# Altium schematic symbol library kmilo17pet-NSC_Switcher.SchLib: 2226 symbols (part 45 of 59)
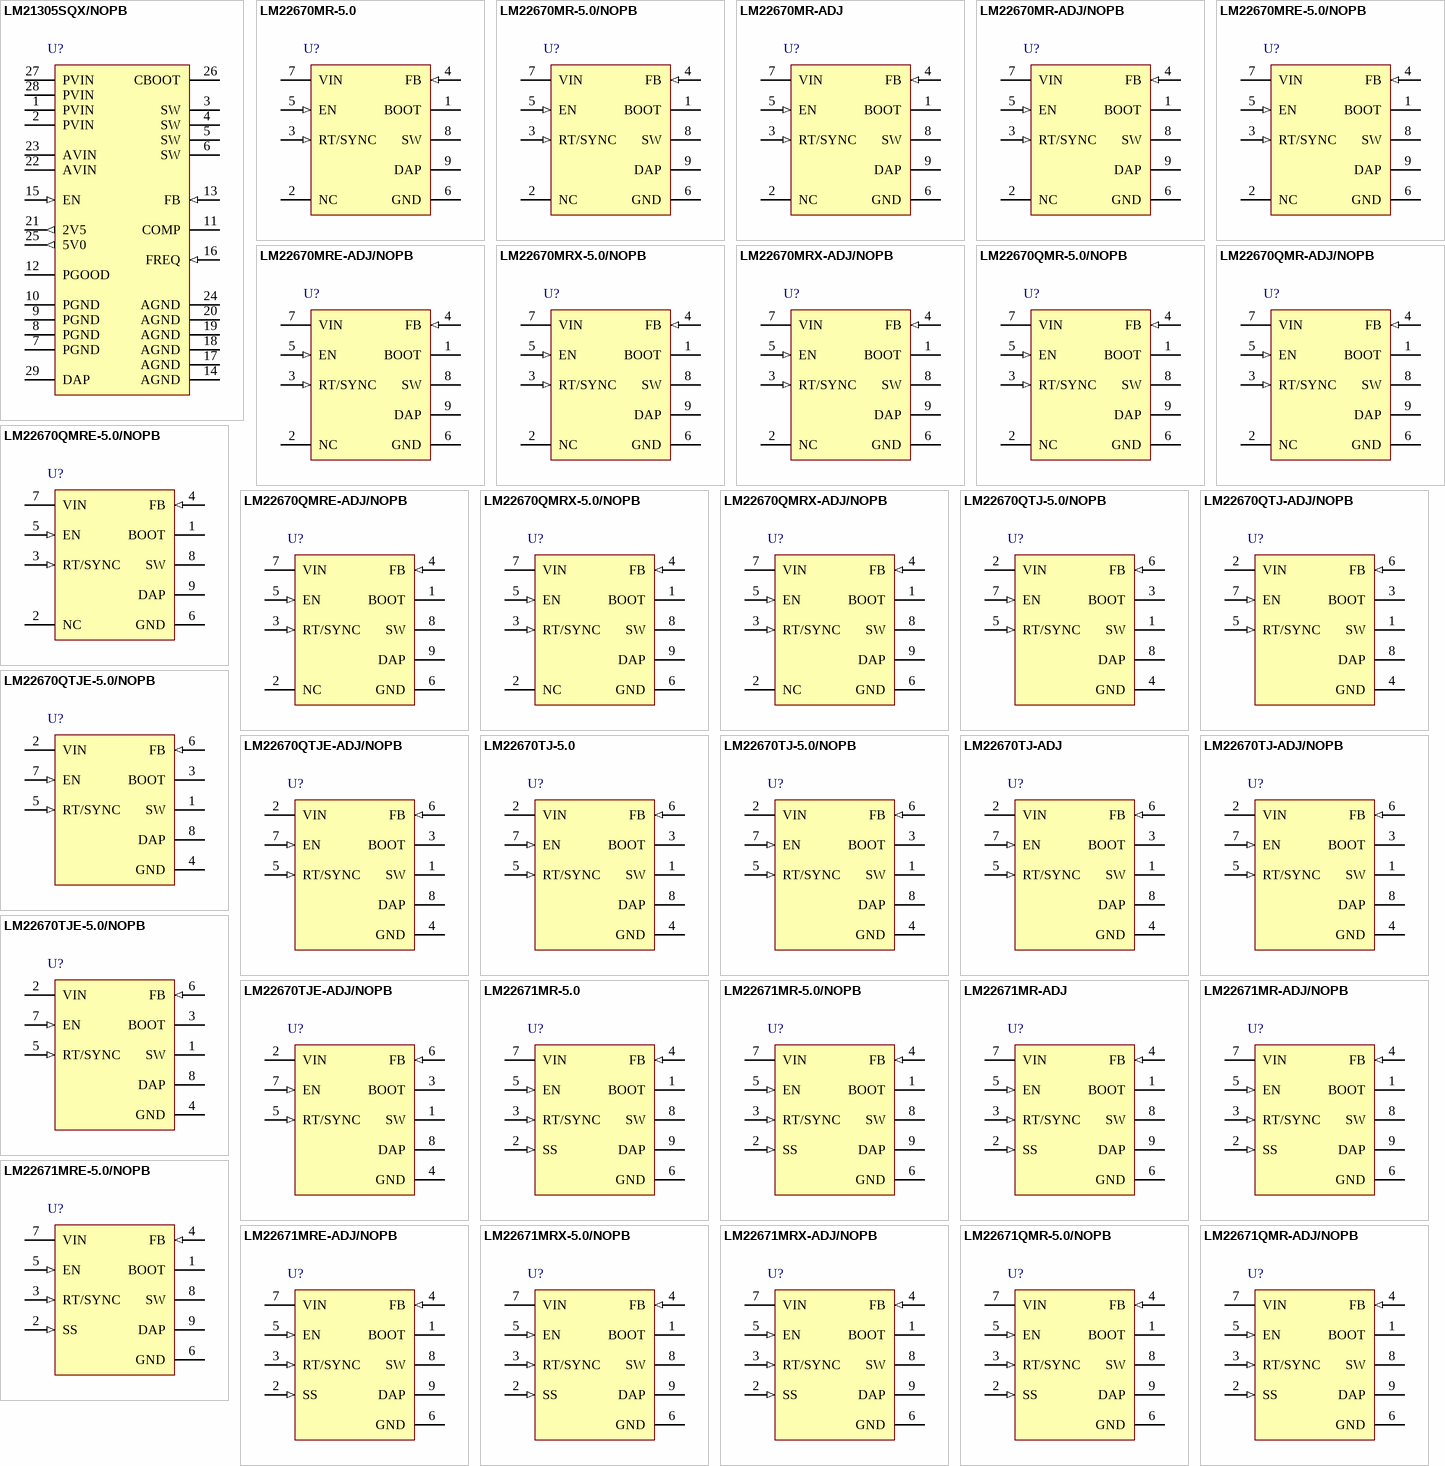
[diagram p113: symbols LM21305SQX/NOPB to LM22671QMR-ADJ/NOPB]

## LM21305SQX/NOPB
designator U?
5A Adjustable Frequency Synchronous Buck Regulator, 28-pin LLP, 4500 Reel; PartNumber: LM21305SQX/NOPB; Manufacturer: National Semiconductor; PackageTopMarking: NS*UZXYTT*21305SQ; PowerWise: Y; CompType: Switcher; DatasheetVersion: Sep-2011; PackageVersion: revB, Sep-2008; PackageReference: SQA28B; PackageDescription: LLP, Quad, 5 x 5 x 0.8mm Body, 28 Lead, 0.5mm Pitch, No Pullback, 2.8 x 2.8 mm Exposed Pad; RoHS: Y; PinCount: 28; High-Reliability: Y; Code_JEDEC: MO-220-WHHD-1; ComponentLink1Description: Manufacturer URL; ComponentLink1URL: http://www.national.com/; ComponentLink2Description: LM21305 Datasheet; ComponentLink2URL: http://www.national.com/ds/LM/LM21305.pdf; ComponentLink3Description: LM21305 Web Page; ComponentLink3URL: http://www.national.com/pf/LM/LM21305.html; ComponentLink4Description: SQA28B Package Page; ComponentLink4URL: http://www.national.com/packaging/folders/sqa28b.html
footprint SQA28B (QFN, 29-Leads, Body 5x5mm, Pitch 0.5mm, Thermal Pad 2.8x2.8mm, NSC Recommended)
pins: 1 PVIN (power), 2 PVIN (power), 3 SW (power), 4 SW (power), 5 SW (power), 6 SW (power), 7 PGND (power), 8 PGND (power), 9 PGND (power), 10 PGND (power), 11 COMP, 12 PGOOD (oc), 13 FB (in), 14 AGND (power), 15 EN (in), 16 FREQ (in), 17 AGND (power), 18 AGND (power), 19 AGND (power), 20 AGND (power), 21 2V5 (out), 22 AVIN (power), 23 AVIN (power), 24 AGND (power), 25 5V0 (out), 26 CBOOT, 27 PVIN (power), 28 PVIN (power), 29 DAP (power)

## LM22670MR-5.0
designator U?
3A SIMPLE SWITCHER® Step-Down Voltage Regulator with Synchronization or Adjustable Switching Frequency, 8-pin PSOP; PartNumber: LM22670MR-5.0; Manufacturer: National Semiconductor; PackageTopMarking: NSXYTT*L22670*5.0; PowerWise: N; High-Reliability: Y; DatasheetVersion: Jan-2011; PackageVersion: revB, Dec-2007; PackageReference: MRA08B; PackageDescription: Molded, PSOP .193 x .154 x .058in, 8 Lead, .050in Pitch, Large DAP; RoHS: Y; PinCount: 8; CompType: Switcher; Code_JEDEC: MS-012-AA; ComponentLink1Description: Manufacturer URL; ComponentLink1URL: http://www.national.com/; ComponentLink2Description: LM22670 Datasheet; ComponentLink2URL: http://www.national.com/ds/LM/LM22670.pdf; ComponentLink3Description: LM22670 Web Page; ComponentLink3URL: http://www.national.com/pf/LM/LM22670.html; ComponentLink4Description: MRA08B Package Page; ComponentLink4URL: http://www.national.com/packaging/folders/mra08b.html
footprint MRA08B_N (SOIC, 8-Leads, Body 4.9x3.9mm, Pitch 1.27mm, Thermal Pad, IPC Medium Density)
footprint MRA08B_L (SOIC, 8-Leads, Body 4.9x3.9mm, Pitch 1.27mm, Thermal Pad, IPC High Density)
footprint MRA08B_M (SOIC, 8-Leads, Body 4.9x3.9mm, Pitch 1.27mm, Thermal Pad, IPC Low Density)
pins: 1 BOOT, 2 NC, 3 RT/SYNC (in), 4 FB (in), 5 EN (in), 6 GND (power), 7 VIN (power), 8 SW (power), 9 DAP (power)

## LM22670MR-5.0/NOPB
designator U?
3A SIMPLE SWITCHER®, Step-Down Voltage Regulator with Synchronization or Adjustable Switching Frequency, 8-pin PSOP, Pb-Free; PartNumber: LM22670MR-5.0/NOPB; Manufacturer: National Semiconductor; PackageTopMarking: NSXYTT*L22670*5.0; PowerWise: N; High-Reliability: Y; DatasheetVersion: Jan-2011; PackageVersion: revB, Dec-2007; PackageReference: MRA08B; PackageDescription: Molded, PSOP .193 x .154 x .058in, 8 Lead, .050in Pitch, Large DAP; RoHS: Y; PinCount: 8; CompType: Switcher; Code_JEDEC: MS-012-AA; ComponentLink1Description: Manufacturer URL; ComponentLink1URL: http://www.national.com/; ComponentLink2Description: LM22670 Datasheet; ComponentLink2URL: http://www.national.com/ds/LM/LM22670.pdf; ComponentLink3Description: LM22670 Web Page; ComponentLink3URL: http://www.national.com/pf/LM/LM22670.html; ComponentLink4Description: MRA08B Package Page; ComponentLink4URL: http://www.national.com/packaging/folders/mra08b.html
footprint MRA08B_N (SOIC, 8-Leads, Body 4.9x3.9mm, Pitch 1.27mm, Thermal Pad, IPC Medium Density)
footprint MRA08B_L (SOIC, 8-Leads, Body 4.9x3.9mm, Pitch 1.27mm, Thermal Pad, IPC High Density)
footprint MRA08B_M (SOIC, 8-Leads, Body 4.9x3.9mm, Pitch 1.27mm, Thermal Pad, IPC Low Density)
pins: 1 BOOT, 2 NC, 3 RT/SYNC (in), 4 FB (in), 5 EN (in), 6 GND (power), 7 VIN (power), 8 SW (power), 9 DAP (power)

## LM22670MR-ADJ
designator U?
3A SIMPLE SWITCHER® Step-Down Voltage Regulator with Synchronization or Adjustable Switching Frequency, 8-pin PSOP; PartNumber: LM22670MR-ADJ; Manufacturer: National Semiconductor; PackageTopMarking: NSXYTT*L22670*ADJ; PowerWise: N; High-Reliability: Y; DatasheetVersion: Jan-2011; PackageVersion: revB, Dec-2007; PackageReference: MRA08B; PackageDescription: Molded, PSOP .193 x .154 x .058in, 8 Lead, .050in Pitch, Large DAP; RoHS: Y; PinCount: 8; CompType: Switcher; Code_JEDEC: MS-012-AA; ComponentLink1Description: Manufacturer URL; ComponentLink1URL: http://www.national.com/; ComponentLink2Description: LM22670 Datasheet; ComponentLink2URL: http://www.national.com/ds/LM/LM22670.pdf; ComponentLink3Description: LM22670 Web Page; ComponentLink3URL: http://www.national.com/pf/LM/LM22670.html; ComponentLink4Description: MRA08B Package Page; ComponentLink4URL: http://www.national.com/packaging/folders/mra08b.html
footprint MRA08B_N (SOIC, 8-Leads, Body 4.9x3.9mm, Pitch 1.27mm, Thermal Pad, IPC Medium Density)
footprint MRA08B_L (SOIC, 8-Leads, Body 4.9x3.9mm, Pitch 1.27mm, Thermal Pad, IPC High Density)
footprint MRA08B_M (SOIC, 8-Leads, Body 4.9x3.9mm, Pitch 1.27mm, Thermal Pad, IPC Low Density)
pins: 1 BOOT, 2 NC, 3 RT/SYNC (in), 4 FB (in), 5 EN (in), 6 GND (power), 7 VIN (power), 8 SW (power), 9 DAP (power)

## LM22670MR-ADJ/NOPB
designator U?
3A SIMPLE SWITCHER®, Step-Down Voltage Regulator with Synchronization or Adjustable Switching Frequency, 8-pin PSOP, Pb-Free; PartNumber: LM22670MR-ADJ/NOPB; Manufacturer: National Semiconductor; PackageTopMarking: NSXYTT*L22670*ADJ; PowerWise: N; High-Reliability: Y; DatasheetVersion: Jan-2011; PackageVersion: revB, Dec-2007; PackageReference: MRA08B; PackageDescription: Molded, PSOP .193 x .154 x .058in, 8 Lead, .050in Pitch, Large DAP; RoHS: Y; PinCount: 8; CompType: Switcher; Code_JEDEC: MS-012-AA; ComponentLink1Description: Manufacturer URL; ComponentLink1URL: http://www.national.com/; ComponentLink2Description: LM22670 Datasheet; ComponentLink2URL: http://www.national.com/ds/LM/LM22670.pdf; ComponentLink3Description: LM22670 Web Page; ComponentLink3URL: http://www.national.com/pf/LM/LM22670.html; ComponentLink4Description: MRA08B Package Page; ComponentLink4URL: http://www.national.com/packaging/folders/mra08b.html
footprint MRA08B_N (SOIC, 8-Leads, Body 4.9x3.9mm, Pitch 1.27mm, Thermal Pad, IPC Medium Density)
footprint MRA08B_L (SOIC, 8-Leads, Body 4.9x3.9mm, Pitch 1.27mm, Thermal Pad, IPC High Density)
footprint MRA08B_M (SOIC, 8-Leads, Body 4.9x3.9mm, Pitch 1.27mm, Thermal Pad, IPC Low Density)
pins: 1 BOOT, 2 NC, 3 RT/SYNC (in), 4 FB (in), 5 EN (in), 6 GND (power), 7 VIN (power), 8 SW (power), 9 DAP (power)

## LM22670MRE-5.0/NOPB
designator U?
3A SIMPLE SWITCHER®, Step-Down Voltage Regulator with Synchronization or Adjustable Switching Frequency, 8-pin PSOP, Pb-Free; PartNumber: LM22670MRE-5.0/NOPB; Manufacturer: National Semiconductor; PackageTopMarking: NSXYTT*L22670*5.0; PowerWise: N; High-Reliability: Y; DatasheetVersion: Jan-2011; PackageVersion: revB, Dec-2007; PackageReference: MRA08B; PackageDescription: Molded, PSOP .193 x .154 x .058in, 8 Lead, .050in Pitch, Large DAP; RoHS: Y; PinCount: 8; CompType: Switcher; Code_JEDEC: MS-012-AA; ComponentLink1Description: Manufacturer URL; ComponentLink1URL: http://www.national.com/; ComponentLink2Description: LM22670 Datasheet; ComponentLink2URL: http://www.national.com/ds/LM/LM22670.pdf; ComponentLink3Description: LM22670 Web Page; ComponentLink3URL: http://www.national.com/pf/LM/LM22670.html; ComponentLink4Description: MRA08B Package Page; ComponentLink4URL: http://www.national.com/packaging/folders/mra08b.html
footprint MRA08B_N (SOIC, 8-Leads, Body 4.9x3.9mm, Pitch 1.27mm, Thermal Pad, IPC Medium Density)
footprint MRA08B_L (SOIC, 8-Leads, Body 4.9x3.9mm, Pitch 1.27mm, Thermal Pad, IPC High Density)
footprint MRA08B_M (SOIC, 8-Leads, Body 4.9x3.9mm, Pitch 1.27mm, Thermal Pad, IPC Low Density)
pins: 1 BOOT, 2 NC, 3 RT/SYNC (in), 4 FB (in), 5 EN (in), 6 GND (power), 7 VIN (power), 8 SW (power), 9 DAP (power)

## LM22670MRE-ADJ/NOPB
designator U?
3A SIMPLE SWITCHER®, Step-Down Voltage Regulator with Synchronization or Adjustable Switching Frequency, 8-pin PSOP, Pb-Free; PartNumber: LM22670MRE-ADJ/NOPB; Manufacturer: National Semiconductor; PackageTopMarking: NSXYTT*L22670*ADJ; PowerWise: N; High-Reliability: Y; DatasheetVersion: Jan-2011; PackageVersion: revB, Dec-2007; PackageReference: MRA08B; PackageDescription: Molded, PSOP .193 x .154 x .058in, 8 Lead, .050in Pitch, Large DAP; RoHS: Y; PinCount: 8; CompType: Switcher; Code_JEDEC: MS-012-AA; ComponentLink1Description: Manufacturer URL; ComponentLink1URL: http://www.national.com/; ComponentLink2Description: LM22670 Datasheet; ComponentLink2URL: http://www.national.com/ds/LM/LM22670.pdf; ComponentLink3Description: LM22670 Web Page; ComponentLink3URL: http://www.national.com/pf/LM/LM22670.html; ComponentLink4Description: MRA08B Package Page; ComponentLink4URL: http://www.national.com/packaging/folders/mra08b.html
footprint MRA08B_N (SOIC, 8-Leads, Body 4.9x3.9mm, Pitch 1.27mm, Thermal Pad, IPC Medium Density)
footprint MRA08B_L (SOIC, 8-Leads, Body 4.9x3.9mm, Pitch 1.27mm, Thermal Pad, IPC High Density)
footprint MRA08B_M (SOIC, 8-Leads, Body 4.9x3.9mm, Pitch 1.27mm, Thermal Pad, IPC Low Density)
pins: 1 BOOT, 2 NC, 3 RT/SYNC (in), 4 FB (in), 5 EN (in), 6 GND (power), 7 VIN (power), 8 SW (power), 9 DAP (power)

## LM22670MRX-5.0/NOPB
designator U?
3A SIMPLE SWITCHER®, Step-Down Voltage Regulator with Synchronization or Adjustable Switching Frequency, 8-pin PSOP, Pb-Free; PartNumber: LM22670MRX-5.0/NOPB; Manufacturer: National Semiconductor; PackageTopMarking: NSXYTT*L22670*5.0; PowerWise: N; High-Reliability: Y; DatasheetVersion: Jan-2011; PackageVersion: revB, Dec-2007; PackageReference: MRA08B; PackageDescription: Molded, PSOP .193 x .154 x .058in, 8 Lead, .050in Pitch, Large DAP; RoHS: Y; PinCount: 8; CompType: Switcher; Code_JEDEC: MS-012-AA; ComponentLink1Description: Manufacturer URL; ComponentLink1URL: http://www.national.com/; ComponentLink2Description: LM22670 Datasheet; ComponentLink2URL: http://www.national.com/ds/LM/LM22670.pdf; ComponentLink3Description: LM22670 Web Page; ComponentLink3URL: http://www.national.com/pf/LM/LM22670.html; ComponentLink4Description: MRA08B Package Page; ComponentLink4URL: http://www.national.com/packaging/folders/mra08b.html
footprint MRA08B_N (SOIC, 8-Leads, Body 4.9x3.9mm, Pitch 1.27mm, Thermal Pad, IPC Medium Density)
footprint MRA08B_L (SOIC, 8-Leads, Body 4.9x3.9mm, Pitch 1.27mm, Thermal Pad, IPC High Density)
footprint MRA08B_M (SOIC, 8-Leads, Body 4.9x3.9mm, Pitch 1.27mm, Thermal Pad, IPC Low Density)
pins: 1 BOOT, 2 NC, 3 RT/SYNC (in), 4 FB (in), 5 EN (in), 6 GND (power), 7 VIN (power), 8 SW (power), 9 DAP (power)

## LM22670MRX-ADJ/NOPB
designator U?
3A SIMPLE SWITCHER®, Step-Down Voltage Regulator with Synchronization or Adjustable Switching Frequency, 8-pin PSOP, Pb-Free; PartNumber: LM22670MRX-ADJ/NOPB; Manufacturer: National Semiconductor; PackageTopMarking: NSXYTT*L22670*ADJ; PowerWise: N; High-Reliability: Y; DatasheetVersion: Jan-2011; PackageVersion: revB, Dec-2007; PackageReference: MRA08B; PackageDescription: Molded, PSOP .193 x .154 x .058in, 8 Lead, .050in Pitch, Large DAP; RoHS: Y; PinCount: 8; CompType: Switcher; Code_JEDEC: MS-012-AA; ComponentLink1Description: Manufacturer URL; ComponentLink1URL: http://www.national.com/; ComponentLink2Description: LM22670 Datasheet; ComponentLink2URL: http://www.national.com/ds/LM/LM22670.pdf; ComponentLink3Description: LM22670 Web Page; ComponentLink3URL: http://www.national.com/pf/LM/LM22670.html; ComponentLink4Description: MRA08B Package Page; ComponentLink4URL: http://www.national.com/packaging/folders/mra08b.html
footprint MRA08B_N (SOIC, 8-Leads, Body 4.9x3.9mm, Pitch 1.27mm, Thermal Pad, IPC Medium Density)
footprint MRA08B_L (SOIC, 8-Leads, Body 4.9x3.9mm, Pitch 1.27mm, Thermal Pad, IPC High Density)
footprint MRA08B_M (SOIC, 8-Leads, Body 4.9x3.9mm, Pitch 1.27mm, Thermal Pad, IPC Low Density)
pins: 1 BOOT, 2 NC, 3 RT/SYNC (in), 4 FB (in), 5 EN (in), 6 GND (power), 7 VIN (power), 8 SW (power), 9 DAP (power)

## LM22670QMR-5.0/NOPB
designator U?
3A SIMPLE SWITCHER®, Step-Down Voltage Regulator with Synchronization or Adjustable Switching Frequency, 5V Output, Automotive Grade 1, 8-pin PSOP, 95 Rail; PartNumber: LM22670QMR-5.0/NOPB; Manufacturer: National Semiconductor; PackageTopMarking: NSXYTT*L22670*Q5.0; PowerWise: N; High-Reliability: Y; DatasheetVersion: Jan-2011; PackageVersion: revB, Dec-2007; PackageReference: MRA08B; PackageDescription: Molded, PSOP .193 x .154 x .058in, 8 Lead, .050in Pitch, Large DAP; RoHS: Y; PinCount: 8; CompType: Switcher; Code_JEDEC: MS-012-AA; ComponentLink1Description: Manufacturer URL; ComponentLink1URL: http://www.national.com/; ComponentLink2Description: LM22670 Datasheet; ComponentLink2URL: http://www.national.com/ds/LM/LM22670.pdf; ComponentLink3Description: LM22670 Web Page; ComponentLink3URL: http://www.national.com/pf/LM/LM22670.html; ComponentLink4Description: MRA08B Package Page; ComponentLink4URL: http://www.national.com/packaging/folders/mra08b.html
footprint MRA08B_N (SOIC, 8-Leads, Body 4.9x3.9mm, Pitch 1.27mm, Thermal Pad, IPC Medium Density)
footprint MRA08B_L (SOIC, 8-Leads, Body 4.9x3.9mm, Pitch 1.27mm, Thermal Pad, IPC High Density)
footprint MRA08B_M (SOIC, 8-Leads, Body 4.9x3.9mm, Pitch 1.27mm, Thermal Pad, IPC Low Density)
pins: 1 BOOT, 2 NC, 3 RT/SYNC (in), 4 FB (in), 5 EN (in), 6 GND (power), 7 VIN (power), 8 SW (power), 9 DAP (power)

## LM22670QMR-ADJ/NOPB
designator U?
3A SIMPLE SWITCHER®, Step-Down Voltage Regulator with Synchronization or Adjustable Switching Frequency, Adjustable Output, Automotive Grade 1, 8-pin PSOP, 95 Rail; PartNumber: LM22670QMR-ADJ/NOPB; Manufacturer: National Semiconductor; PackageTopMarking: NSXYTT*L22670*QADJ; PowerWise: N; High-Reliability: Y; DatasheetVersion: Jan-2011; PackageVersion: revB, Dec-2007; PackageReference: MRA08B; PackageDescription: Molded, PSOP .193 x .154 x .058in, 8 Lead, .050in Pitch, Large DAP; RoHS: Y; PinCount: 8; CompType: Switcher; Code_JEDEC: MS-012-AA; ComponentLink1Description: Manufacturer URL; ComponentLink1URL: http://www.national.com/; ComponentLink2Description: LM22670 Datasheet; ComponentLink2URL: http://www.national.com/ds/LM/LM22670.pdf; ComponentLink3Description: LM22670 Web Page; ComponentLink3URL: http://www.national.com/pf/LM/LM22670.html; ComponentLink4Description: MRA08B Package Page; ComponentLink4URL: http://www.national.com/packaging/folders/mra08b.html
footprint MRA08B_N (SOIC, 8-Leads, Body 4.9x3.9mm, Pitch 1.27mm, Thermal Pad, IPC Medium Density)
footprint MRA08B_L (SOIC, 8-Leads, Body 4.9x3.9mm, Pitch 1.27mm, Thermal Pad, IPC High Density)
footprint MRA08B_M (SOIC, 8-Leads, Body 4.9x3.9mm, Pitch 1.27mm, Thermal Pad, IPC Low Density)
pins: 1 BOOT, 2 NC, 3 RT/SYNC (in), 4 FB (in), 5 EN (in), 6 GND (power), 7 VIN (power), 8 SW (power), 9 DAP (power)

## LM22670QMRE-5.0/NOPB
designator U?
3A SIMPLE SWITCHER®, Step-Down Voltage Regulator with Synchronization or Adjustable Switching Frequency, 5V Output, Automotive Grade 1, 8-pin PSOP, 250 Reel; PartNumber: LM22670QMRE-5.0/NOPB; Manufacturer: National Semiconductor; PackageTopMarking: NSXYTT*L22670*Q5.0; PowerWise: N; High-Reliability: Y; DatasheetVersion: Jan-2011; PackageVersion: revB, Dec-2007; PackageReference: MRA08B; PackageDescription: Molded, PSOP .193 x .154 x .058in, 8 Lead, .050in Pitch, Large DAP; RoHS: Y; PinCount: 8; CompType: Switcher; Code_JEDEC: MS-012-AA; ComponentLink1Description: Manufacturer URL; ComponentLink1URL: http://www.national.com/; ComponentLink2Description: LM22670 Datasheet; ComponentLink2URL: http://www.national.com/ds/LM/LM22670.pdf; ComponentLink3Description: LM22670 Web Page; ComponentLink3URL: http://www.national.com/pf/LM/LM22670.html; ComponentLink4Description: MRA08B Package Page; ComponentLink4URL: http://www.national.com/packaging/folders/mra08b.html
footprint MRA08B_N (SOIC, 8-Leads, Body 4.9x3.9mm, Pitch 1.27mm, Thermal Pad, IPC Medium Density)
footprint MRA08B_L (SOIC, 8-Leads, Body 4.9x3.9mm, Pitch 1.27mm, Thermal Pad, IPC High Density)
footprint MRA08B_M (SOIC, 8-Leads, Body 4.9x3.9mm, Pitch 1.27mm, Thermal Pad, IPC Low Density)
pins: 1 BOOT, 2 NC, 3 RT/SYNC (in), 4 FB (in), 5 EN (in), 6 GND (power), 7 VIN (power), 8 SW (power), 9 DAP (power)

## LM22670QMRE-ADJ/NOPB
designator U?
3A SIMPLE SWITCHER®, Step-Down Voltage Regulator with Synchronization or Adjustable Switching Frequency, Adjustable Output, Automotive Grade 1, 8-pin PSOP, 250 Reel; PartNumber: LM22670QMRE-ADJ/NOPB; Manufacturer: National Semiconductor; PackageTopMarking: NSXYTT*L22670*QADJ; PowerWise: N; High-Reliability: Y; DatasheetVersion: Jan-2011; PackageVersion: revB, Dec-2007; PackageReference: MRA08B; PackageDescription: Molded, PSOP .193 x .154 x .058in, 8 Lead, .050in Pitch, Large DAP; RoHS: Y; PinCount: 8; CompType: Switcher; Code_JEDEC: MS-012-AA; ComponentLink1Description: Manufacturer URL; ComponentLink1URL: http://www.national.com/; ComponentLink2Description: LM22670 Datasheet; ComponentLink2URL: http://www.national.com/ds/LM/LM22670.pdf; ComponentLink3Description: LM22670 Web Page; ComponentLink3URL: http://www.national.com/pf/LM/LM22670.html; ComponentLink4Description: MRA08B Package Page; ComponentLink4URL: http://www.national.com/packaging/folders/mra08b.html
footprint MRA08B_N (SOIC, 8-Leads, Body 4.9x3.9mm, Pitch 1.27mm, Thermal Pad, IPC Medium Density)
footprint MRA08B_L (SOIC, 8-Leads, Body 4.9x3.9mm, Pitch 1.27mm, Thermal Pad, IPC High Density)
footprint MRA08B_M (SOIC, 8-Leads, Body 4.9x3.9mm, Pitch 1.27mm, Thermal Pad, IPC Low Density)
pins: 1 BOOT, 2 NC, 3 RT/SYNC (in), 4 FB (in), 5 EN (in), 6 GND (power), 7 VIN (power), 8 SW (power), 9 DAP (power)

## LM22670QMRX-5.0/NOPB
designator U?
3A SIMPLE SWITCHER®, Step-Down Voltage Regulator with Synchronization or Adjustable Switching Frequency, 5V Output, Automotive Grade 1, 8-pin PSOP, 2500 Reel; PartNumber: LM22670QMRX-5.0/NOPB; Manufacturer: National Semiconductor; PackageTopMarking: NSXYTT*L22670*Q5.0; PowerWise: N; High-Reliability: Y; DatasheetVersion: Jan-2011; PackageVersion: revB, Dec-2007; PackageReference: MRA08B; PackageDescription: Molded, PSOP .193 x .154 x .058in, 8 Lead, .050in Pitch, Large DAP; RoHS: Y; PinCount: 8; CompType: Switcher; Code_JEDEC: MS-012-AA; ComponentLink1Description: Manufacturer URL; ComponentLink1URL: http://www.national.com/; ComponentLink2Description: LM22670 Datasheet; ComponentLink2URL: http://www.national.com/ds/LM/LM22670.pdf; ComponentLink3Description: LM22670 Web Page; ComponentLink3URL: http://www.national.com/pf/LM/LM22670.html; ComponentLink4Description: MRA08B Package Page; ComponentLink4URL: http://www.national.com/packaging/folders/mra08b.html
footprint MRA08B_N (SOIC, 8-Leads, Body 4.9x3.9mm, Pitch 1.27mm, Thermal Pad, IPC Medium Density)
footprint MRA08B_L (SOIC, 8-Leads, Body 4.9x3.9mm, Pitch 1.27mm, Thermal Pad, IPC High Density)
footprint MRA08B_M (SOIC, 8-Leads, Body 4.9x3.9mm, Pitch 1.27mm, Thermal Pad, IPC Low Density)
pins: 1 BOOT, 2 NC, 3 RT/SYNC (in), 4 FB (in), 5 EN (in), 6 GND (power), 7 VIN (power), 8 SW (power), 9 DAP (power)

## LM22670QMRX-ADJ/NOPB
designator U?
3A SIMPLE SWITCHER®, Step-Down Voltage Regulator with Synchronization or Adjustable Switching Frequency, Adjustable Output, Automotive Grade 1, 8-pin PSOP, 2500 Reel; PartNumber: LM22670QMRX-ADJ/NOPB; Manufacturer: National Semiconductor; PackageTopMarking: NSXYTT*L22670*QADJ; PowerWise: N; High-Reliability: Y; DatasheetVersion: Jan-2011; PackageVersion: revB, Dec-2007; PackageReference: MRA08B; PackageDescription: Molded, PSOP .193 x .154 x .058in, 8 Lead, .050in Pitch, Large DAP; RoHS: Y; PinCount: 8; CompType: Switcher; Code_JEDEC: MS-012-AA; ComponentLink1Description: Manufacturer URL; ComponentLink1URL: http://www.national.com/; ComponentLink2Description: LM22670 Datasheet; ComponentLink2URL: http://www.national.com/ds/LM/LM22670.pdf; ComponentLink3Description: LM22670 Web Page; ComponentLink3URL: http://www.national.com/pf/LM/LM22670.html; ComponentLink4Description: MRA08B Package Page; ComponentLink4URL: http://www.national.com/packaging/folders/mra08b.html
footprint MRA08B_N (SOIC, 8-Leads, Body 4.9x3.9mm, Pitch 1.27mm, Thermal Pad, IPC Medium Density)
footprint MRA08B_L (SOIC, 8-Leads, Body 4.9x3.9mm, Pitch 1.27mm, Thermal Pad, IPC High Density)
footprint MRA08B_M (SOIC, 8-Leads, Body 4.9x3.9mm, Pitch 1.27mm, Thermal Pad, IPC Low Density)
pins: 1 BOOT, 2 NC, 3 RT/SYNC (in), 4 FB (in), 5 EN (in), 6 GND (power), 7 VIN (power), 8 SW (power), 9 DAP (power)

## LM22670QTJ-5.0/NOPB
designator U?
3A SIMPLE SWITCHER®, Step-Down Voltage Regulator with Synchronization or Adjustable Switching Frequency, 5V Output, Automotive Grade 1, 7-pin TO-263 Thin, 1000 Reel; PartNumber: LM22670QTJ-5.0/NOPB; Manufacturer: National Semiconductor; PackageTopMarking: NSUZXYTTE#*LM22670*QTJ-5.0; PowerWise: N; High-Reliability: Y; DatasheetVersion: Jan-2011; PackageVersion: revC, Jan-2008; PackageReference: TJ7A; PackageDescription: Thin TO-263, Molded, 9.85 x 10.16 x 2mm Body, 7 Lead, 1.27mm Pitch, Surface Mount; RoHS: Y; PinCount: 7; CompType: Switcher; ComponentLink1Description: Manufacturer URL; ComponentLink1URL: http://www.national.com/; ComponentLink2Description: LM22670 Datasheet; ComponentLink2URL: http://www.national.com/ds/LM/LM22670.pdf; ComponentLink3Description: LM22670 Web Page; ComponentLink3URL: http://www.national.com/pf/LM/LM22670.html; ComponentLink4Description: TJ7A Package Page; ComponentLink4URL: http://www.national.com/packaging/folders/tj7a.html
footprint TJ7A_N (D2-PAK, 8-Leads, Body 9.9x10.2mm, Pitch 1.27mm, Lead Span 14mm, IPC Medium Density)
footprint TJ7A_L (D2-PAK, 8-Leads, Body 9.9x10.2mm, Pitch 1.27mm, Lead Span 14mm, IPC High Density)
footprint TJ7A_M (D2-PAK, 8-Leads, Body 9.9x10.2mm, Pitch 1.27mm, Lead Span 14mm, IPC Low Density)
pins: 1 SW (power), 2 VIN (power), 3 BOOT, 4 GND (power), 5 RT/SYNC (in), 6 FB (in), 7 EN (in), 8 DAP (power)

## LM22670QTJ-ADJ/NOPB
designator U?
3A SIMPLE SWITCHER®, Step-Down Voltage Regulator with Synchronization or Adjustable Switching Frequency, Adjustable Output, Automotive Grade 1, 7-pin TO-263 Thin, 1000 Reel; PartNumber: LM22670QTJ-ADJ/NOPB; Manufacturer: National Semiconductor; PackageTopMarking: NSUZXYTTE#*LM22670*QTJ-ADJ; PowerWise: N; High-Reliability: Y; DatasheetVersion: Jan-2011; PackageVersion: revC, Jan-2008; PackageReference: TJ7A; PackageDescription: Thin TO-263, Molded, 9.85 x 10.16 x 2mm Body, 7 Lead, 1.27mm Pitch, Surface Mount; RoHS: Y; PinCount: 7; CompType: Switcher; ComponentLink1Description: Manufacturer URL; ComponentLink1URL: http://www.national.com/; ComponentLink2Description: LM22670 Datasheet; ComponentLink2URL: http://www.national.com/ds/LM/LM22670.pdf; ComponentLink3Description: LM22670 Web Page; ComponentLink3URL: http://www.national.com/pf/LM/LM22670.html; ComponentLink4Description: TJ7A Package Page; ComponentLink4URL: http://www.national.com/packaging/folders/tj7a.html
footprint TJ7A_N (D2-PAK, 8-Leads, Body 9.9x10.2mm, Pitch 1.27mm, Lead Span 14mm, IPC Medium Density)
footprint TJ7A_L (D2-PAK, 8-Leads, Body 9.9x10.2mm, Pitch 1.27mm, Lead Span 14mm, IPC High Density)
footprint TJ7A_M (D2-PAK, 8-Leads, Body 9.9x10.2mm, Pitch 1.27mm, Lead Span 14mm, IPC Low Density)
pins: 1 SW (power), 2 VIN (power), 3 BOOT, 4 GND (power), 5 RT/SYNC (in), 6 FB (in), 7 EN (in), 8 DAP (power)

## LM22670QTJE-5.0/NOPB
designator U?
3A SIMPLE SWITCHER®, Step-Down Voltage Regulator with Synchronization or Adjustable Switching Frequency, 5V Output, Automotive Grade 1, 7-pin TO-263 Thin, 250 Reel; PartNumber: LM22670QTJE-5.0/NOPB; Manufacturer: National Semiconductor; PackageTopMarking: NSUZXYTTE#*LM22670*QTJ-5.0; PowerWise: N; High-Reliability: Y; DatasheetVersion: Jan-2011; PackageVersion: revC, Jan-2008; PackageReference: TJ7A; PackageDescription: Thin TO-263, Molded, 9.85 x 10.16 x 2mm Body, 7 Lead, 1.27mm Pitch, Surface Mount; RoHS: Y; PinCount: 7; CompType: Switcher; ComponentLink1Description: Manufacturer URL; ComponentLink1URL: http://www.national.com/; ComponentLink2Description: LM22670 Datasheet; ComponentLink2URL: http://www.national.com/ds/LM/LM22670.pdf; ComponentLink3Description: LM22670 Web Page; ComponentLink3URL: http://www.national.com/pf/LM/LM22670.html; ComponentLink4Description: TJ7A Package Page; ComponentLink4URL: http://www.national.com/packaging/folders/tj7a.html
footprint TJ7A_N (D2-PAK, 8-Leads, Body 9.9x10.2mm, Pitch 1.27mm, Lead Span 14mm, IPC Medium Density)
footprint TJ7A_L (D2-PAK, 8-Leads, Body 9.9x10.2mm, Pitch 1.27mm, Lead Span 14mm, IPC High Density)
footprint TJ7A_M (D2-PAK, 8-Leads, Body 9.9x10.2mm, Pitch 1.27mm, Lead Span 14mm, IPC Low Density)
pins: 1 SW (power), 2 VIN (power), 3 BOOT, 4 GND (power), 5 RT/SYNC (in), 6 FB (in), 7 EN (in), 8 DAP (power)

## LM22670QTJE-ADJ/NOPB
designator U?
3A SIMPLE SWITCHER®, Step-Down Voltage Regulator with Synchronization or Adjustable Switching Frequency, Adjustable Output, Automotive Grade 1, 7-pin TO-263 Thin, 250 Reel; PartNumber: LM22670QTJE-ADJ/NOPB; Manufacturer: National Semiconductor; PackageTopMarking: NSUZXYTTE#*LM22670*QTJ-ADJ; PowerWise: N; High-Reliability: Y; DatasheetVersion: Jan-2011; PackageVersion: revC, Jan-2008; PackageReference: TJ7A; PackageDescription: Thin TO-263, Molded, 9.85 x 10.16 x 2mm Body, 7 Lead, 1.27mm Pitch, Surface Mount; RoHS: Y; PinCount: 7; CompType: Switcher; ComponentLink1Description: Manufacturer URL; ComponentLink1URL: http://www.national.com/; ComponentLink2Description: LM22670 Datasheet; ComponentLink2URL: http://www.national.com/ds/LM/LM22670.pdf; ComponentLink3Description: LM22670 Web Page; ComponentLink3URL: http://www.national.com/pf/LM/LM22670.html; ComponentLink4Description: TJ7A Package Page; ComponentLink4URL: http://www.national.com/packaging/folders/tj7a.html
footprint TJ7A_N (D2-PAK, 8-Leads, Body 9.9x10.2mm, Pitch 1.27mm, Lead Span 14mm, IPC Medium Density)
footprint TJ7A_L (D2-PAK, 8-Leads, Body 9.9x10.2mm, Pitch 1.27mm, Lead Span 14mm, IPC High Density)
footprint TJ7A_M (D2-PAK, 8-Leads, Body 9.9x10.2mm, Pitch 1.27mm, Lead Span 14mm, IPC Low Density)
pins: 1 SW (power), 2 VIN (power), 3 BOOT, 4 GND (power), 5 RT/SYNC (in), 6 FB (in), 7 EN (in), 8 DAP (power)

## LM22670TJ-5.0
designator U?
3A SIMPLE SWITCHER® Step-Down Voltage Regulator with Synchronization or Adjustable Switching Frequency, 7-pin TO-263 Thin; PartNumber: LM22670TJ-5.0; Manufacturer: National Semiconductor; PackageTopMarking: NSUZXYTTE#*LM22670*TJ-5.0; PowerWise: N; High-Reliability: Y; DatasheetVersion: Jan-2011; PackageVersion: revC, Jan-2008; PackageReference: TJ7A; PackageDescription: Thin TO-263, Molded, 9.85 x 10.16 x 2mm Body, 7 Lead, 1.27mm Pitch, Surface Mount; RoHS: Y; PinCount: 7; CompType: Switcher; ComponentLink1Description: Manufacturer URL; ComponentLink1URL: http://www.national.com/; ComponentLink2Description: LM22670 Datasheet; ComponentLink2URL: http://www.national.com/ds/LM/LM22670.pdf; ComponentLink3Description: LM22670 Web Page; ComponentLink3URL: http://www.national.com/pf/LM/LM22670.html; ComponentLink4Description: TJ7A Package Page; ComponentLink4URL: http://www.national.com/packaging/folders/tj7a.html
footprint TJ7A_N (D2-PAK, 8-Leads, Body 9.9x10.2mm, Pitch 1.27mm, Lead Span 14mm, IPC Medium Density)
footprint TJ7A_L (D2-PAK, 8-Leads, Body 9.9x10.2mm, Pitch 1.27mm, Lead Span 14mm, IPC High Density)
footprint TJ7A_M (D2-PAK, 8-Leads, Body 9.9x10.2mm, Pitch 1.27mm, Lead Span 14mm, IPC Low Density)
pins: 1 SW (power), 2 VIN (power), 3 BOOT, 4 GND (power), 5 RT/SYNC (in), 6 FB (in), 7 EN (in), 8 DAP (power)

## LM22670TJ-5.0/NOPB
designator U?
3A SIMPLE SWITCHER®, Step-Down Voltage Regulator with Synchronization or Adjustable Switching Frequency, 7-pin TO-263 Thin, Pb-Free; PartNumber: LM22670TJ-5.0/NOPB; Manufacturer: National Semiconductor; PackageTopMarking: NSUZXYTTE#*LM22670*TJ-5.0; PowerWise: N; High-Reliability: Y; DatasheetVersion: Jan-2011; PackageVersion: revC, Jan-2008; PackageReference: TJ7A; PackageDescription: Thin TO-263, Molded, 9.85 x 10.16 x 2mm Body, 7 Lead, 1.27mm Pitch, Surface Mount; RoHS: Y; PinCount: 7; CompType: Switcher; ComponentLink1Description: Manufacturer URL; ComponentLink1URL: http://www.national.com/; ComponentLink2Description: LM22670 Datasheet; ComponentLink2URL: http://www.national.com/ds/LM/LM22670.pdf; ComponentLink3Description: LM22670 Web Page; ComponentLink3URL: http://www.national.com/pf/LM/LM22670.html; ComponentLink4Description: TJ7A Package Page; ComponentLink4URL: http://www.national.com/packaging/folders/tj7a.html
footprint TJ7A_N (D2-PAK, 8-Leads, Body 9.9x10.2mm, Pitch 1.27mm, Lead Span 14mm, IPC Medium Density)
footprint TJ7A_L (D2-PAK, 8-Leads, Body 9.9x10.2mm, Pitch 1.27mm, Lead Span 14mm, IPC High Density)
footprint TJ7A_M (D2-PAK, 8-Leads, Body 9.9x10.2mm, Pitch 1.27mm, Lead Span 14mm, IPC Low Density)
pins: 1 SW (power), 2 VIN (power), 3 BOOT, 4 GND (power), 5 RT/SYNC (in), 6 FB (in), 7 EN (in), 8 DAP (power)

## LM22670TJ-ADJ
designator U?
3A SIMPLE SWITCHER® Step-Down Voltage Regulator with Synchronization or Adjustable Switching Frequency, 7-pin TO-263 Thin; PartNumber: LM22670TJ-ADJ; Manufacturer: National Semiconductor; PackageTopMarking: NSUZXYTTE#*LM22670*TJ-ADJ; PowerWise: N; High-Reliability: Y; DatasheetVersion: Jan-2011; PackageVersion: revC, Jan-2008; PackageReference: TJ7A; PackageDescription: Thin TO-263, Molded, 9.85 x 10.16 x 2mm Body, 7 Lead, 1.27mm Pitch, Surface Mount; RoHS: Y; PinCount: 7; CompType: Switcher; ComponentLink1Description: Manufacturer URL; ComponentLink1URL: http://www.national.com/; ComponentLink2Description: LM22670 Datasheet; ComponentLink2URL: http://www.national.com/ds/LM/LM22670.pdf; ComponentLink3Description: LM22670 Web Page; ComponentLink3URL: http://www.national.com/pf/LM/LM22670.html; ComponentLink4Description: TJ7A Package Page; ComponentLink4URL: http://www.national.com/packaging/folders/tj7a.html
footprint TJ7A_N (D2-PAK, 8-Leads, Body 9.9x10.2mm, Pitch 1.27mm, Lead Span 14mm, IPC Medium Density)
footprint TJ7A_L (D2-PAK, 8-Leads, Body 9.9x10.2mm, Pitch 1.27mm, Lead Span 14mm, IPC High Density)
footprint TJ7A_M (D2-PAK, 8-Leads, Body 9.9x10.2mm, Pitch 1.27mm, Lead Span 14mm, IPC Low Density)
pins: 1 SW (power), 2 VIN (power), 3 BOOT, 4 GND (power), 5 RT/SYNC (in), 6 FB (in), 7 EN (in), 8 DAP (power)

## LM22670TJ-ADJ/NOPB
designator U?
3A SIMPLE SWITCHER®, Step-Down Voltage Regulator with Synchronization or Adjustable Switching Frequency, 7-pin TO-263 Thin, Pb-Free; PartNumber: LM22670TJ-ADJ/NOPB; Manufacturer: National Semiconductor; PackageTopMarking: NSUZXYTTE#*LM22670*TJ-ADJ; PowerWise: N; High-Reliability: Y; DatasheetVersion: Jan-2011; PackageVersion: revC, Jan-2008; PackageReference: TJ7A; PackageDescription: Thin TO-263, Molded, 9.85 x 10.16 x 2mm Body, 7 Lead, 1.27mm Pitch, Surface Mount; RoHS: Y; PinCount: 7; CompType: Switcher; ComponentLink1Description: Manufacturer URL; ComponentLink1URL: http://www.national.com/; ComponentLink2Description: LM22670 Datasheet; ComponentLink2URL: http://www.national.com/ds/LM/LM22670.pdf; ComponentLink3Description: LM22670 Web Page; ComponentLink3URL: http://www.national.com/pf/LM/LM22670.html; ComponentLink4Description: TJ7A Package Page; ComponentLink4URL: http://www.national.com/packaging/folders/tj7a.html
footprint TJ7A_N (D2-PAK, 8-Leads, Body 9.9x10.2mm, Pitch 1.27mm, Lead Span 14mm, IPC Medium Density)
footprint TJ7A_L (D2-PAK, 8-Leads, Body 9.9x10.2mm, Pitch 1.27mm, Lead Span 14mm, IPC High Density)
footprint TJ7A_M (D2-PAK, 8-Leads, Body 9.9x10.2mm, Pitch 1.27mm, Lead Span 14mm, IPC Low Density)
pins: 1 SW (power), 2 VIN (power), 3 BOOT, 4 GND (power), 5 RT/SYNC (in), 6 FB (in), 7 EN (in), 8 DAP (power)

## LM22670TJE-5.0/NOPB
designator U?
3A SIMPLE SWITCHER®, Step-Down Voltage Regulator with Synchronization or Adjustable Switching Frequency, 7-pin TO-263 Thin, Pb-Free; PartNumber: LM22670TJE-5.0/NOPB; Manufacturer: National Semiconductor; PackageTopMarking: NSUZXYTTE#*LM22670*TJ-5.0; PowerWise: N; High-Reliability: Y; DatasheetVersion: Jan-2011; PackageVersion: revC, Jan-2008; PackageReference: TJ7A; PackageDescription: Thin TO-263, Molded, 9.85 x 10.16 x 2mm Body, 7 Lead, 1.27mm Pitch, Surface Mount; RoHS: Y; PinCount: 7; CompType: Switcher; ComponentLink1Description: Manufacturer URL; ComponentLink1URL: http://www.national.com/; ComponentLink2Description: LM22670 Datasheet; ComponentLink2URL: http://www.national.com/ds/LM/LM22670.pdf; ComponentLink3Description: LM22670 Web Page; ComponentLink3URL: http://www.national.com/pf/LM/LM22670.html; ComponentLink4Description: TJ7A Package Page; ComponentLink4URL: http://www.national.com/packaging/folders/tj7a.html
footprint TJ7A_N (D2-PAK, 8-Leads, Body 9.9x10.2mm, Pitch 1.27mm, Lead Span 14mm, IPC Medium Density)
footprint TJ7A_L (D2-PAK, 8-Leads, Body 9.9x10.2mm, Pitch 1.27mm, Lead Span 14mm, IPC High Density)
footprint TJ7A_M (D2-PAK, 8-Leads, Body 9.9x10.2mm, Pitch 1.27mm, Lead Span 14mm, IPC Low Density)
pins: 1 SW (power), 2 VIN (power), 3 BOOT, 4 GND (power), 5 RT/SYNC (in), 6 FB (in), 7 EN (in), 8 DAP (power)

## LM22670TJE-ADJ/NOPB
designator U?
3A SIMPLE SWITCHER®, Step-Down Voltage Regulator with Synchronization or Adjustable Switching Frequency, 7-pin TO-263 Thin, Pb-Free; PartNumber: LM22670TJE-ADJ/NOPB; Manufacturer: National Semiconductor; PackageTopMarking: NSUZXYTTE#*LM22670*TJ-ADJ; PowerWise: N; High-Reliability: Y; DatasheetVersion: Jan-2011; PackageVersion: revC, Jan-2008; PackageReference: TJ7A; PackageDescription: Thin TO-263, Molded, 9.85 x 10.16 x 2mm Body, 7 Lead, 1.27mm Pitch, Surface Mount; RoHS: Y; PinCount: 7; CompType: Switcher; ComponentLink1Description: Manufacturer URL; ComponentLink1URL: http://www.national.com/; ComponentLink2Description: LM22670 Datasheet; ComponentLink2URL: http://www.national.com/ds/LM/LM22670.pdf; ComponentLink3Description: LM22670 Web Page; ComponentLink3URL: http://www.national.com/pf/LM/LM22670.html; ComponentLink4Description: TJ7A Package Page; ComponentLink4URL: http://www.national.com/packaging/folders/tj7a.html
footprint TJ7A_N (D2-PAK, 8-Leads, Body 9.9x10.2mm, Pitch 1.27mm, Lead Span 14mm, IPC Medium Density)
footprint TJ7A_L (D2-PAK, 8-Leads, Body 9.9x10.2mm, Pitch 1.27mm, Lead Span 14mm, IPC High Density)
footprint TJ7A_M (D2-PAK, 8-Leads, Body 9.9x10.2mm, Pitch 1.27mm, Lead Span 14mm, IPC Low Density)
pins: 1 SW (power), 2 VIN (power), 3 BOOT, 4 GND (power), 5 RT/SYNC (in), 6 FB (in), 7 EN (in), 8 DAP (power)

## LM22671MR-5.0
designator U?
500mA SIMPLE SWITCHER® Step-Down Voltage Regulator with Features, 8-pin PSOP; PartNumber: LM22671MR-5.0; Manufacturer: National Semiconductor; PackageTopMarking: NSXYTT*L22671*5.0; PowerWise: N; High-Reliability: Y; DatasheetVersion: Jan-2011; PackageVersion: revB, Dec-2007; PackageReference: MRA08B; PackageDescription: Molded, PSOP .193 x .154 x .058in, 8 Lead, .050in Pitch, Large DAP; RoHS: Y; PinCount: 8; CompType: Switcher; Code_JEDEC: MS-012-AA; ComponentLink1Description: Manufacturer URL; ComponentLink1URL: http://www.national.com/; ComponentLink2Description: LM22671 Datasheet; ComponentLink2URL: http://www.national.com/ds/LM/LM22671.pdf; ComponentLink3Description: LM22671 Web Page; ComponentLink3URL: http://www.national.com/pf/LM/LM22671.html; ComponentLink4Description: MRA08B Package Page; ComponentLink4URL: http://www.national.com/packaging/folders/mra08b.html
footprint MRA08B_N (SOIC, 8-Leads, Body 4.9x3.9mm, Pitch 1.27mm, Thermal Pad, IPC Medium Density)
footprint MRA08B_L (SOIC, 8-Leads, Body 4.9x3.9mm, Pitch 1.27mm, Thermal Pad, IPC High Density)
footprint MRA08B_M (SOIC, 8-Leads, Body 4.9x3.9mm, Pitch 1.27mm, Thermal Pad, IPC Low Density)
pins: 1 BOOT, 2 SS (in), 3 RT/SYNC (in), 4 FB (in), 5 EN (in), 6 GND (power), 7 VIN (power), 8 SW (power), 9 DAP (power)

## LM22671MR-5.0/NOPB
designator U?
500 mA SIMPLE SWITCHER®, Step-Down Voltage Regulator with Features, 8-pin PSOP, Pb-Free; PartNumber: LM22671MR-5.0/NOPB; Manufacturer: National Semiconductor; PackageTopMarking: NSXYTT*L22671*5.0; PowerWise: N; High-Reliability: Y; DatasheetVersion: Jan-2011; PackageVersion: revB, Dec-2007; PackageReference: MRA08B; PackageDescription: Molded, PSOP .193 x .154 x .058in, 8 Lead, .050in Pitch, Large DAP; RoHS: Y; PinCount: 8; CompType: Switcher; Code_JEDEC: MS-012-AA; ComponentLink1Description: Manufacturer URL; ComponentLink1URL: http://www.national.com/; ComponentLink2Description: LM22671 Datasheet; ComponentLink2URL: http://www.national.com/ds/LM/LM22671.pdf; ComponentLink3Description: LM22671 Web Page; ComponentLink3URL: http://www.national.com/pf/LM/LM22671.html; ComponentLink4Description: MRA08B Package Page; ComponentLink4URL: http://www.national.com/packaging/folders/mra08b.html
footprint MRA08B_N (SOIC, 8-Leads, Body 4.9x3.9mm, Pitch 1.27mm, Thermal Pad, IPC Medium Density)
footprint MRA08B_L (SOIC, 8-Leads, Body 4.9x3.9mm, Pitch 1.27mm, Thermal Pad, IPC High Density)
footprint MRA08B_M (SOIC, 8-Leads, Body 4.9x3.9mm, Pitch 1.27mm, Thermal Pad, IPC Low Density)
pins: 1 BOOT, 2 SS (in), 3 RT/SYNC (in), 4 FB (in), 5 EN (in), 6 GND (power), 7 VIN (power), 8 SW (power), 9 DAP (power)

## LM22671MR-ADJ
designator U?
500mA SIMPLE SWITCHER® Step-Down Voltage Regulator with Features, 8-pin PSOP; PartNumber: LM22671MR-ADJ; Manufacturer: National Semiconductor; PackageTopMarking: NSXYTT*L22671*ADJ; PowerWise: N; High-Reliability: Y; DatasheetVersion: Jan-2011; PackageVersion: revB, Dec-2007; PackageReference: MRA08B; PackageDescription: Molded, PSOP .193 x .154 x .058in, 8 Lead, .050in Pitch, Large DAP; RoHS: Y; PinCount: 8; CompType: Switcher; Code_JEDEC: MS-012-AA; ComponentLink1Description: Manufacturer URL; ComponentLink1URL: http://www.national.com/; ComponentLink2Description: LM22671 Datasheet; ComponentLink2URL: http://www.national.com/ds/LM/LM22671.pdf; ComponentLink3Description: LM22671 Web Page; ComponentLink3URL: http://www.national.com/pf/LM/LM22671.html; ComponentLink4Description: MRA08B Package Page; ComponentLink4URL: http://www.national.com/packaging/folders/mra08b.html
footprint MRA08B_N (SOIC, 8-Leads, Body 4.9x3.9mm, Pitch 1.27mm, Thermal Pad, IPC Medium Density)
footprint MRA08B_L (SOIC, 8-Leads, Body 4.9x3.9mm, Pitch 1.27mm, Thermal Pad, IPC High Density)
footprint MRA08B_M (SOIC, 8-Leads, Body 4.9x3.9mm, Pitch 1.27mm, Thermal Pad, IPC Low Density)
pins: 1 BOOT, 2 SS (in), 3 RT/SYNC (in), 4 FB (in), 5 EN (in), 6 GND (power), 7 VIN (power), 8 SW (power), 9 DAP (power)

## LM22671MR-ADJ/NOPB
designator U?
500 mA SIMPLE SWITCHER®, Step-Down Voltage Regulator with Features, 8-pin PSOP, Pb-Free; PartNumber: LM22671MR-ADJ/NOPB; Manufacturer: National Semiconductor; PackageTopMarking: NSXYTT*L22671*ADJ; PowerWise: N; High-Reliability: Y; DatasheetVersion: Jan-2011; PackageVersion: revB, Dec-2007; PackageReference: MRA08B; PackageDescription: Molded, PSOP .193 x .154 x .058in, 8 Lead, .050in Pitch, Large DAP; RoHS: Y; PinCount: 8; CompType: Switcher; Code_JEDEC: MS-012-AA; ComponentLink1Description: Manufacturer URL; ComponentLink1URL: http://www.national.com/; ComponentLink2Description: LM22671 Datasheet; ComponentLink2URL: http://www.national.com/ds/LM/LM22671.pdf; ComponentLink3Description: LM22671 Web Page; ComponentLink3URL: http://www.national.com/pf/LM/LM22671.html; ComponentLink4Description: MRA08B Package Page; ComponentLink4URL: http://www.national.com/packaging/folders/mra08b.html
footprint MRA08B_N (SOIC, 8-Leads, Body 4.9x3.9mm, Pitch 1.27mm, Thermal Pad, IPC Medium Density)
footprint MRA08B_L (SOIC, 8-Leads, Body 4.9x3.9mm, Pitch 1.27mm, Thermal Pad, IPC High Density)
footprint MRA08B_M (SOIC, 8-Leads, Body 4.9x3.9mm, Pitch 1.27mm, Thermal Pad, IPC Low Density)
pins: 1 BOOT, 2 SS (in), 3 RT/SYNC (in), 4 FB (in), 5 EN (in), 6 GND (power), 7 VIN (power), 8 SW (power), 9 DAP (power)

## LM22671MRE-5.0/NOPB
designator U?
500 mA SIMPLE SWITCHER®, Step-Down Voltage Regulator with Features, 8-pin PSOP, Pb-Free; PartNumber: LM22671MRE-5.0/NOPB; Manufacturer: National Semiconductor; PackageTopMarking: NSXYTT*L22671*5.0; PowerWise: N; High-Reliability: Y; DatasheetVersion: Jan-2011; PackageVersion: revB, Dec-2007; PackageReference: MRA08B; PackageDescription: Molded, PSOP .193 x .154 x .058in, 8 Lead, .050in Pitch, Large DAP; RoHS: Y; PinCount: 8; CompType: Switcher; Code_JEDEC: MS-012-AA; ComponentLink1Description: Manufacturer URL; ComponentLink1URL: http://www.national.com/; ComponentLink2Description: LM22671 Datasheet; ComponentLink2URL: http://www.national.com/ds/LM/LM22671.pdf; ComponentLink3Description: LM22671 Web Page; ComponentLink3URL: http://www.national.com/pf/LM/LM22671.html; ComponentLink4Description: MRA08B Package Page; ComponentLink4URL: http://www.national.com/packaging/folders/mra08b.html
footprint MRA08B_N (SOIC, 8-Leads, Body 4.9x3.9mm, Pitch 1.27mm, Thermal Pad, IPC Medium Density)
footprint MRA08B_L (SOIC, 8-Leads, Body 4.9x3.9mm, Pitch 1.27mm, Thermal Pad, IPC High Density)
footprint MRA08B_M (SOIC, 8-Leads, Body 4.9x3.9mm, Pitch 1.27mm, Thermal Pad, IPC Low Density)
pins: 1 BOOT, 2 SS (in), 3 RT/SYNC (in), 4 FB (in), 5 EN (in), 6 GND (power), 7 VIN (power), 8 SW (power), 9 DAP (power)

## LM22671MRE-ADJ/NOPB
designator U?
500 mA SIMPLE SWITCHER®, Step-Down Voltage Regulator with Features, 8-pin PSOP, Pb-Free; PartNumber: LM22671MRE-ADJ/NOPB; Manufacturer: National Semiconductor; PackageTopMarking: NSXYTT*L22671*ADJ; PowerWise: N; High-Reliability: Y; DatasheetVersion: Jan-2011; PackageVersion: revB, Dec-2007; PackageReference: MRA08B; PackageDescription: Molded, PSOP .193 x .154 x .058in, 8 Lead, .050in Pitch, Large DAP; RoHS: Y; PinCount: 8; CompType: Switcher; Code_JEDEC: MS-012-AA; ComponentLink1Description: Manufacturer URL; ComponentLink1URL: http://www.national.com/; ComponentLink2Description: LM22671 Datasheet; ComponentLink2URL: http://www.national.com/ds/LM/LM22671.pdf; ComponentLink3Description: LM22671 Web Page; ComponentLink3URL: http://www.national.com/pf/LM/LM22671.html; ComponentLink4Description: MRA08B Package Page; ComponentLink4URL: http://www.national.com/packaging/folders/mra08b.html
footprint MRA08B_N (SOIC, 8-Leads, Body 4.9x3.9mm, Pitch 1.27mm, Thermal Pad, IPC Medium Density)
footprint MRA08B_L (SOIC, 8-Leads, Body 4.9x3.9mm, Pitch 1.27mm, Thermal Pad, IPC High Density)
footprint MRA08B_M (SOIC, 8-Leads, Body 4.9x3.9mm, Pitch 1.27mm, Thermal Pad, IPC Low Density)
pins: 1 BOOT, 2 SS (in), 3 RT/SYNC (in), 4 FB (in), 5 EN (in), 6 GND (power), 7 VIN (power), 8 SW (power), 9 DAP (power)

## LM22671MRX-5.0/NOPB
designator U?
500 mA SIMPLE SWITCHER®, Step-Down Voltage Regulator with Features, 8-pin PSOP, Pb-Free; PartNumber: LM22671MRX-5.0/NOPB; Manufacturer: National Semiconductor; PackageTopMarking: NSXYTT*L22671*5.0; PowerWise: N; High-Reliability: Y; DatasheetVersion: Jan-2011; PackageVersion: revB, Dec-2007; PackageReference: MRA08B; PackageDescription: Molded, PSOP .193 x .154 x .058in, 8 Lead, .050in Pitch, Large DAP; RoHS: Y; PinCount: 8; CompType: Switcher; Code_JEDEC: MS-012-AA; ComponentLink1Description: Manufacturer URL; ComponentLink1URL: http://www.national.com/; ComponentLink2Description: LM22671 Datasheet; ComponentLink2URL: http://www.national.com/ds/LM/LM22671.pdf; ComponentLink3Description: LM22671 Web Page; ComponentLink3URL: http://www.national.com/pf/LM/LM22671.html; ComponentLink4Description: MRA08B Package Page; ComponentLink4URL: http://www.national.com/packaging/folders/mra08b.html
footprint MRA08B_N (SOIC, 8-Leads, Body 4.9x3.9mm, Pitch 1.27mm, Thermal Pad, IPC Medium Density)
footprint MRA08B_L (SOIC, 8-Leads, Body 4.9x3.9mm, Pitch 1.27mm, Thermal Pad, IPC High Density)
footprint MRA08B_M (SOIC, 8-Leads, Body 4.9x3.9mm, Pitch 1.27mm, Thermal Pad, IPC Low Density)
pins: 1 BOOT, 2 SS (in), 3 RT/SYNC (in), 4 FB (in), 5 EN (in), 6 GND (power), 7 VIN (power), 8 SW (power), 9 DAP (power)

## LM22671MRX-ADJ/NOPB
designator U?
500 mA SIMPLE SWITCHER®, Step-Down Voltage Regulator with Features, 8-pin PSOP, Pb-Free; PartNumber: LM22671MRX-ADJ/NOPB; Manufacturer: National Semiconductor; PackageTopMarking: NSXYTT*L22671*ADJ; PowerWise: N; High-Reliability: Y; DatasheetVersion: Jan-2011; PackageVersion: revB, Dec-2007; PackageReference: MRA08B; PackageDescription: Molded, PSOP .193 x .154 x .058in, 8 Lead, .050in Pitch, Large DAP; RoHS: Y; PinCount: 8; CompType: Switcher; Code_JEDEC: MS-012-AA; ComponentLink1Description: Manufacturer URL; ComponentLink1URL: http://www.national.com/; ComponentLink2Description: LM22671 Datasheet; ComponentLink2URL: http://www.national.com/ds/LM/LM22671.pdf; ComponentLink3Description: LM22671 Web Page; ComponentLink3URL: http://www.national.com/pf/LM/LM22671.html; ComponentLink4Description: MRA08B Package Page; ComponentLink4URL: http://www.national.com/packaging/folders/mra08b.html
footprint MRA08B_N (SOIC, 8-Leads, Body 4.9x3.9mm, Pitch 1.27mm, Thermal Pad, IPC Medium Density)
footprint MRA08B_L (SOIC, 8-Leads, Body 4.9x3.9mm, Pitch 1.27mm, Thermal Pad, IPC High Density)
footprint MRA08B_M (SOIC, 8-Leads, Body 4.9x3.9mm, Pitch 1.27mm, Thermal Pad, IPC Low Density)
pins: 1 BOOT, 2 SS (in), 3 RT/SYNC (in), 4 FB (in), 5 EN (in), 6 GND (power), 7 VIN (power), 8 SW (power), 9 DAP (power)

## LM22671QMR-5.0/NOPB
designator U?
500 mA SIMPLE SWITCHER®, Step-Down Voltage Regulator with Features, 5V Output, Automotive Grade 1, 8-pin PSOP, 95 Rail; PartNumber: LM22671QMR-5.0/NOPB; Manufacturer: National Semiconductor; PackageTopMarking: NSXYTT*L22671*Q5.0; PowerWise: N; High-Reliability: Y; DatasheetVersion: Jan-2011; PackageVersion: revB, Dec-2007; PackageReference: MRA08B; PackageDescription: Molded, PSOP .193 x .154 x .058in, 8 Lead, .050in Pitch, Large DAP; RoHS: Y; PinCount: 8; CompType: Switcher; Code_JEDEC: MS-012-AA; ComponentLink1Description: Manufacturer URL; ComponentLink1URL: http://www.national.com/; ComponentLink2Description: LM22671 Datasheet; ComponentLink2URL: http://www.national.com/ds/LM/LM22671.pdf; ComponentLink3Description: LM22671 Web Page; ComponentLink3URL: http://www.national.com/pf/LM/LM22671.html; ComponentLink4Description: MRA08B Package Page; ComponentLink4URL: http://www.national.com/packaging/folders/mra08b.html
footprint MRA08B_N (SOIC, 8-Leads, Body 4.9x3.9mm, Pitch 1.27mm, Thermal Pad, IPC Medium Density)
footprint MRA08B_L (SOIC, 8-Leads, Body 4.9x3.9mm, Pitch 1.27mm, Thermal Pad, IPC High Density)
footprint MRA08B_M (SOIC, 8-Leads, Body 4.9x3.9mm, Pitch 1.27mm, Thermal Pad, IPC Low Density)
pins: 1 BOOT, 2 SS (in), 3 RT/SYNC (in), 4 FB (in), 5 EN (in), 6 GND (power), 7 VIN (power), 8 SW (power), 9 DAP (power)

## LM22671QMR-ADJ/NOPB
designator U?
500 mA SIMPLE SWITCHER®, Step-Down Voltage Regulator with Features, Adjustable Output, Automotive Grade 1, 8-pin PSOP, 95 Rail; PartNumber: LM22671QMR-ADJ/NOPB; Manufacturer: National Semiconductor; PackageTopMarking: NSXYTT*L22671*QADJ; PowerWise: N; High-Reliability: Y; DatasheetVersion: Jan-2011; PackageVersion: revB, Dec-2007; PackageReference: MRA08B; PackageDescription: Molded, PSOP .193 x .154 x .058in, 8 Lead, .050in Pitch, Large DAP; RoHS: Y; PinCount: 8; CompType: Switcher; Code_JEDEC: MS-012-AA; ComponentLink1Description: Manufacturer URL; ComponentLink1URL: http://www.national.com/; ComponentLink2Description: LM22671 Datasheet; ComponentLink2URL: http://www.national.com/ds/LM/LM22671.pdf; ComponentLink3Description: LM22671 Web Page; ComponentLink3URL: http://www.national.com/pf/LM/LM22671.html; ComponentLink4Description: MRA08B Package Page; ComponentLink4URL: http://www.national.com/packaging/folders/mra08b.html
footprint MRA08B_N (SOIC, 8-Leads, Body 4.9x3.9mm, Pitch 1.27mm, Thermal Pad, IPC Medium Density)
footprint MRA08B_L (SOIC, 8-Leads, Body 4.9x3.9mm, Pitch 1.27mm, Thermal Pad, IPC High Density)
footprint MRA08B_M (SOIC, 8-Leads, Body 4.9x3.9mm, Pitch 1.27mm, Thermal Pad, IPC Low Density)
pins: 1 BOOT, 2 SS (in), 3 RT/SYNC (in), 4 FB (in), 5 EN (in), 6 GND (power), 7 VIN (power), 8 SW (power), 9 DAP (power)

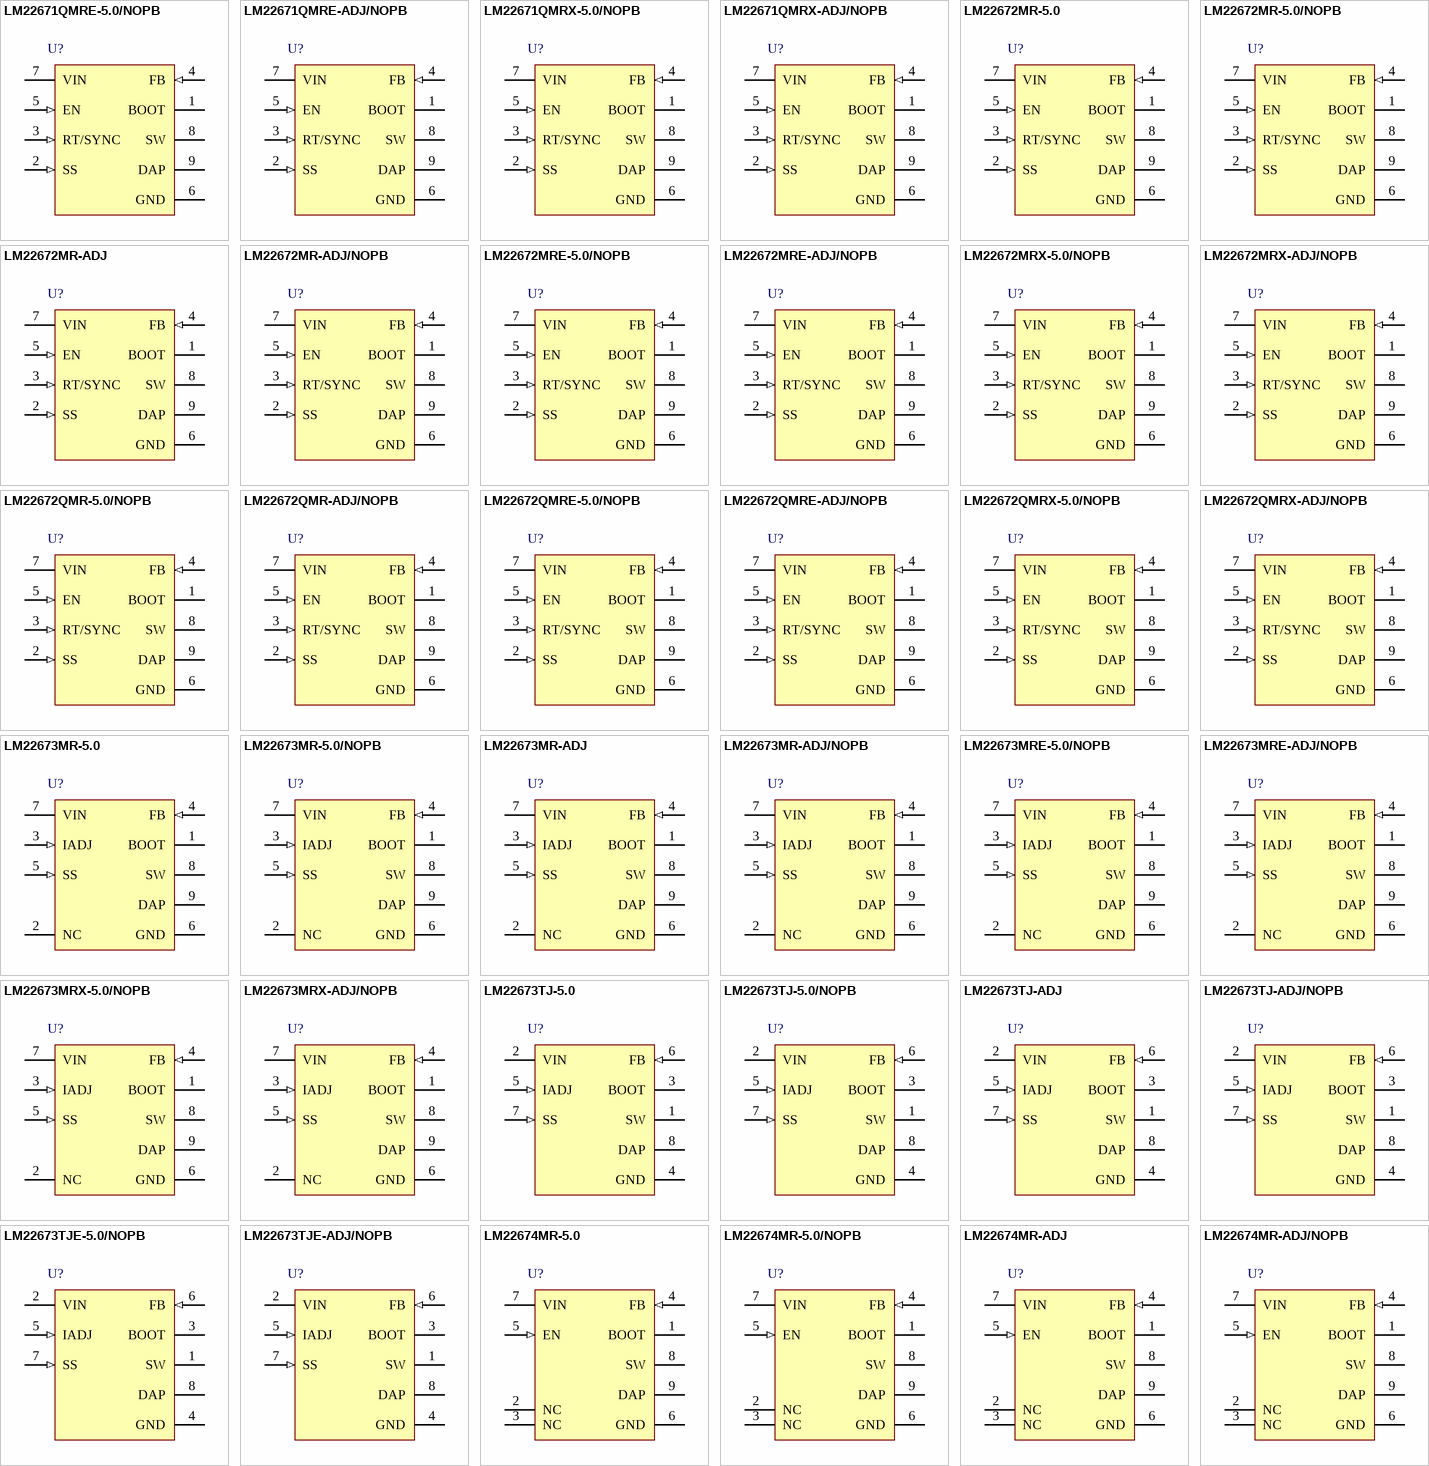
[diagram p52: symbols LM22671QMRE-5.0/NOPB to LM22674MR-ADJ/NOPB]

## LM22671QMRE-5.0/NOPB
designator U?
500 mA SIMPLE SWITCHER®, Step-Down Voltage Regulator with Features, 5V Output, Automotive Grade 1, 8-pin PSOP, 250 Reel; PartNumber: LM22671QMRE-5.0/NOPB; Manufacturer: National Semiconductor; PackageTopMarking: NSXYTT*L22671*Q5.0; PowerWise: N; High-Reliability: Y; DatasheetVersion: Jan-2011; PackageVersion: revB, Dec-2007; PackageReference: MRA08B; PackageDescription: Molded, PSOP .193 x .154 x .058in, 8 Lead, .050in Pitch, Large DAP; RoHS: Y; PinCount: 8; CompType: Switcher; Code_JEDEC: MS-012-AA; ComponentLink1Description: Manufacturer URL; ComponentLink1URL: http://www.national.com/; ComponentLink2Description: LM22671 Datasheet; ComponentLink2URL: http://www.national.com/ds/LM/LM22671.pdf; ComponentLink3Description: LM22671 Web Page; ComponentLink3URL: http://www.national.com/pf/LM/LM22671.html; ComponentLink4Description: MRA08B Package Page; ComponentLink4URL: http://www.national.com/packaging/folders/mra08b.html
footprint MRA08B_N (SOIC, 8-Leads, Body 4.9x3.9mm, Pitch 1.27mm, Thermal Pad, IPC Medium Density)
footprint MRA08B_L (SOIC, 8-Leads, Body 4.9x3.9mm, Pitch 1.27mm, Thermal Pad, IPC High Density)
footprint MRA08B_M (SOIC, 8-Leads, Body 4.9x3.9mm, Pitch 1.27mm, Thermal Pad, IPC Low Density)
pins: 1 BOOT, 2 SS (in), 3 RT/SYNC (in), 4 FB (in), 5 EN (in), 6 GND (power), 7 VIN (power), 8 SW (power), 9 DAP (power)